# Altium footprint library Headers.PcbLib: 34 footprints (part 1 of 3)
Each footprint in its own frame and in the unit in brackets; x right, y up, seen from the top. Pads: shape width x height; smd on the part's side, far side on the other; paste and mask are expansions set on the pad; w line width, h text height; cw(c..) or ccw(c..) is an arc to the next point about the centre after c.
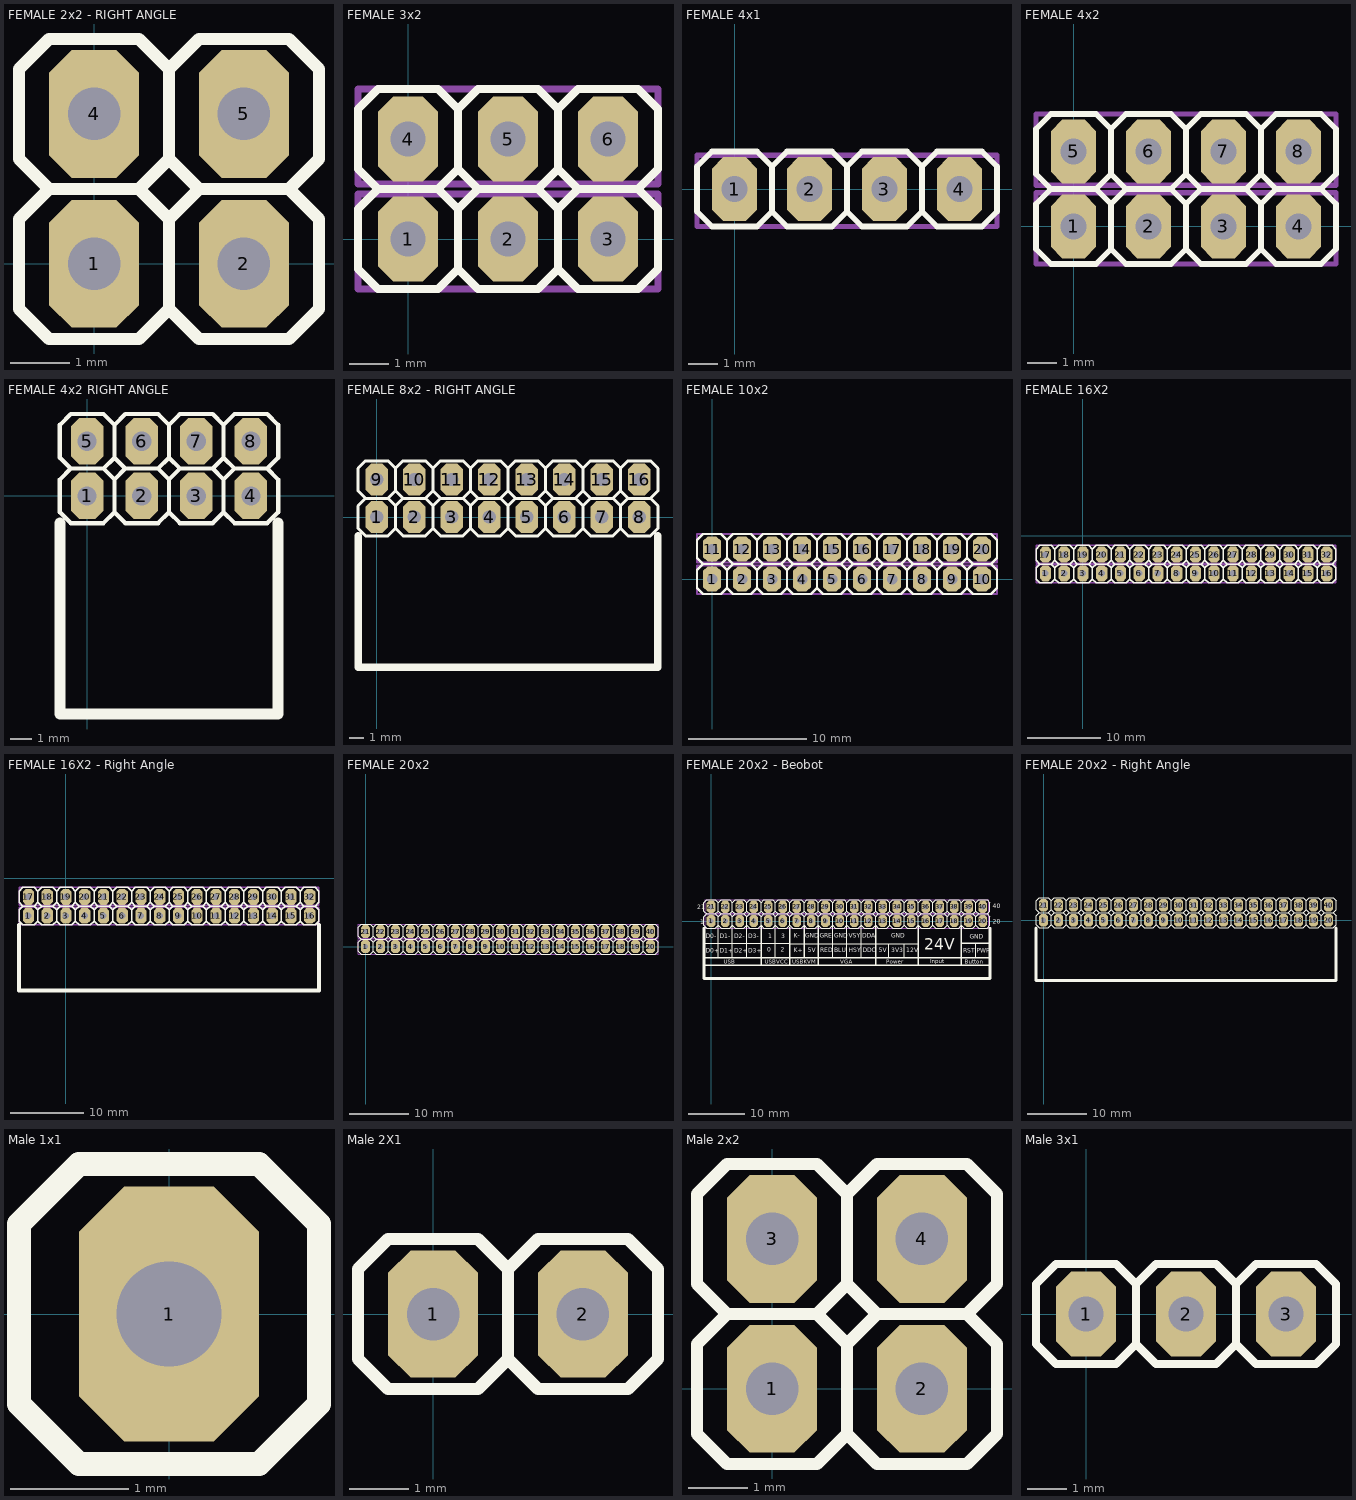
[diagram p0: the footprints below, top view; thin cyan lines are the x and y axes]

## FEMALE 2x2 - RIGHT ANGLE [mil]
pads (4):
  oct 60x85 hole 35: 1(0,0) 2(100,0) 4(0,100) 5(100,100)
Top Overlay:
  lines w8: -30,50 30,50 ; -30,50 -50,30 -50,-30 -30,-50 30,-50 50,-30 ; -30,50 30,50 ; -30,50 30,50 ; -30,50 -50,70 -50,130 -30,150 ; -30,150 30,150 ; -30,150 30,150 ; 30,50 50,30 ; 30,50 50,70 ; 30,150 50,130 ; 50,-30 50,30 ; 50,-30 50,30 ; 50,-30 50,30 ; 50,-30 70,-50 130,-50 150,-30 ; 50,30 70,50 ; 50,70 50,130 ; 50,70 50,130 ; 50,70 50,130 ; 50,70 70,50 ; 50,130 70,150 ; 70,50 130,50 ; 70,50 130,50 ; 70,50 130,50 ; 70,150 130,150 ; 70,150 130,150 ; 130,50 150,30 ; 130,50 150,70 ; 130,150 150,130 ; 150,-30 150,30 ; 150,-30 150,30 ; 150,-30 150,30 ; 150,70 150,130 ; 150,70 150,130 ; 150,70 150,130
3D body: height 124.41, standoff -124.41, extent 87.52,95 112.48,104.96
3D body: height 124.41, standoff -124.41, extent -12.48,-5 12.48,4.96
3D body: height 124.41, standoff -124.41, extent 87.52,-5 112.48,4.96
3D body: height 124.41, standoff -124.41, extent -12.48,-5 12.48,4.96
3D body: height 124.41, standoff -124.41, extent -12.48,-5 12.48,4.96
3D body: height 200, standoff 0, extent -50,-50 150,150

## FEMALE 3x2 [mil]
pads (6):
  oct 60x85 hole 35: 1(0,0) 2(100,0) 3(200,0) 4(0,100) 5(100,100) 6(200,100)
Top Overlay:
  lines w8: -30,50 -50,70 -50,130 -30,150 ; -30,50 30,50 ; -30,50 30,50 ; -30,50 -50,30 -50,-30 -30,-50 30,-50 50,-30 ; -30,50 30,50 ; -30,150 30,150 ; -30,150 30,150 ; 30,50 50,70 ; 30,50 50,30 ; 30,150 50,130 ; 50,-30 70,-50 130,-50 150,-30 ; 50,-30 50,30 ; 50,-30 50,30 ; 50,-30 50,30 ; 50,30 70,50 ; 50,70 70,50 ; 50,70 50,130 ; 50,70 50,130 ; 50,70 50,130 ; 50,130 70,150 ; 70,50 130,50 ; 70,50 130,50 ; 70,50 130,50 ; 70,150 130,150 ; 70,150 130,150 ; 130,50 150,70 ; 130,50 150,30 ; 130,150 150,130 ; 150,-30 170,-50 230,-50 250,-30 ; 150,-30 150,30 ; 150,-30 150,30 ; 150,-30 150,30 ; 150,30 170,50 ; 150,70 170,50 ; 150,70 150,130 ; 150,70 150,130 ; 150,70 150,130 ; 150,130 170,150 ; 170,50 230,50 ; 170,50 230,50 ; 170,50 230,50 ; 170,150 230,150 ; 170,150 230,150 ; 230,50 250,70 ; 230,50 250,30 ; 230,150 250,130 ; 250,-30 250,30 ; 250,-30 250,30 ; 250,-30 250,30 ; 250,70 250,130 ; 250,70 250,130 ; 250,70 250,130
Mechanical 1:
  lines w7: -50,-50 -50,45 250,45 250,-50 -50,-50 ; -50,55 250,55 250,150 -50,150 -50,55
3D body: height 332.68, standoff 0, extent -49.98,-49.98 250,44.98
3D body: height 332.68, standoff 0, extent -49.98,55.02 250,149.98
3D body: height 124.41, standoff -124.41, extent -12.48,-5 12.48,4.96
3D body: height 124.41, standoff -124.41, extent -12.48,-5 12.48,4.96
3D body: height 124.41, standoff -124.41, extent 87.52,-5 112.48,4.96
3D body: height 124.41, standoff -124.41, extent 187.52,-5 212.48,4.96
3D body: height 124.41, standoff -124.41, extent -12.48,95 12.48,104.96
3D body: height 124.41, standoff -124.41, extent 87.52,95 112.48,104.96
3D body: height 124.41, standoff -124.41, extent 187.52,95 212.48,104.96

## FEMALE 4x1 [mil]
pads (4):
  oct 60x85 hole 35: 1(0,0) 2(100,0) 3(200,0) 4(300,0)
Top Overlay:
  lines w8: -30,50 30,50 ; -30,50 30,50 ; -30,50 -50,30 -50,-30 -30,-50 30,-50 50,-30 ; -30,50 30,50 ; 30,50 50,30 ; 50,-30 70,-50 130,-50 150,-30 ; 50,-30 50,30 ; 50,-30 50,30 ; 50,-30 50,30 ; 50,30 70,50 ; 70,50 130,50 ; 70,50 130,50 ; 70,50 130,50 ; 130,50 150,30 ; 150,-30 170,-50 230,-50 250,-30 ; 150,-30 150,30 ; 150,-30 150,30 ; 150,-30 150,30 ; 150,30 170,50 ; 170,50 230,50 ; 170,50 230,50 ; 170,50 230,50 ; 230,50 250,30 ; 250,-30 270,-50 330,-50 350,-30 ; 250,-30 250,30 ; 250,-30 250,30 ; 250,-30 250,30 ; 250,30 270,50 ; 270,50 330,50 ; 270,50 330,50 ; 270,50 330,50 ; 330,50 350,30 ; 350,-30 350,30 ; 350,-30 350,30 ; 350,-30 350,30
Mechanical 1:
  lines w7: -50,-50 -50,45 350,45 350,-50 -50,-50
3D body: height 332.68, standoff 0, extent -49.98,-49.98 350,44.98
3D body: height 124.41, standoff -124.41, extent -12.48,-5 12.48,4.96
3D body: height 124.41, standoff -124.41, extent -12.48,-5 12.48,4.96
3D body: height 124.41, standoff -124.41, extent 87.52,-5 112.48,4.96
3D body: height 124.41, standoff -124.41, extent 187.52,-5 212.48,4.96
3D body: height 124.41, standoff -124.41, extent 287.52,-5 312.48,4.96

## FEMALE 4x2 [mil]
pads (8):
  oct 60x85 hole 35: 1(0,0) 2(100,0) 3(200,0) 4(300,0) 5(0,100) 6(100,100) 7(200,100) 8(300,100)
Top Overlay:
  lines w8: -30,50 30,50 ; -30,50 -50,30 -50,-30 -30,-50 30,-50 50,-30 ; -30,50 30,50 ; -30,50 30,50 ; -30,50 -50,70 -50,130 -30,150 ; -30,150 30,150 ; -30,150 30,150 ; 30,50 50,30 ; 30,50 50,70 ; 30,150 50,130 ; 50,-30 50,30 ; 50,-30 50,30 ; 50,-30 50,30 ; 50,-30 70,-50 130,-50 150,-30 ; 50,30 70,50 ; 50,70 50,130 ; 50,70 50,130 ; 50,70 50,130 ; 50,70 70,50 ; 50,130 70,150 ; 70,50 130,50 ; 70,50 130,50 ; 70,50 130,50 ; 70,150 130,150 ; 70,150 130,150 ; 130,50 150,30 ; 130,50 150,70 ; 130,150 150,130 ; 150,-30 150,30 ; 150,-30 150,30 ; 150,-30 150,30 ; 150,-30 170,-50 230,-50 250,-30 ; 150,30 170,50 ; 150,70 150,130 ; 150,70 150,130 ; 150,70 150,130 ; 150,70 170,50 ; 150,130 170,150 ; 170,50 230,50 ; 170,50 230,50 ; 170,50 230,50 ; 170,150 230,150 ; 170,150 230,150 ; 230,50 250,30 ; 230,50 250,70 ; 230,150 250,130 ; 250,-30 250,30 ; 250,-30 250,30 ; 250,-30 250,30 ; 250,-30 270,-50 330,-50 350,-30 ; 250,30 270,50 ; 250,70 250,130 ; 250,70 250,130 ; 250,70 250,130 ; 250,70 270,50 ; 250,130 270,150 ; 270,50 330,50 ; 270,50 330,50 ; 270,50 330,50 ; 270,150 330,150 ; 270,150 330,150 ; 330,50 350,30 ; 330,50 350,70 ; 330,150 350,130 ; 350,-30 350,30 ; 350,-30 350,30 ; 350,-30 350,30 ; 350,70 350,130 ; 350,70 350,130 ; 350,70 350,130
Mechanical 1:
  lines w7: -50,-50 350,-50 350,45 -50,45 -50,-50 ; -50,55 -50,150 350,150 350,55 -50,55
3D body: height 124.41, standoff -124.41, extent 287.52,95 312.48,104.96
3D body: height 124.41, standoff -124.41, extent 187.52,95 212.48,104.96
3D body: height 124.41, standoff -124.41, extent 87.52,95 112.48,104.96
3D body: height 124.41, standoff -124.41, extent -12.48,95 12.48,104.96
3D body: height 124.41, standoff -124.41, extent 287.52,-5 312.48,4.96
3D body: height 124.41, standoff -124.41, extent 187.52,-5 212.48,4.96
3D body: height 124.41, standoff -124.41, extent 87.52,-5 112.48,4.96
3D body: height 124.41, standoff -124.41, extent -12.48,-5 12.48,4.96
3D body: height 124.41, standoff -124.41, extent -12.48,-5 12.48,4.96
3D body: height 332.68, standoff 0, extent -49.98,55.02 350,149.98
3D body: height 332.68, standoff 0, extent -49.98,-49.98 350,44.98

## FEMALE 4x2 RIGHT ANGLE [mil]
pads (8):
  oct 60x85 hole 35: 1(0,0) 2(100,0) 3(200,0) 4(300,0) 5(0,100) 6(100,100) 7(200,100) 8(300,100)
Top Overlay:
  lines w8: -30,50 30,50 ; -30,50 -50,30 -50,-30 -30,-50 30,-50 50,-30 ; -30,50 30,50 ; -30,50 30,50 ; -30,50 -50,70 -50,130 -30,150 ; -30,150 30,150 ; -30,150 30,150 ; 30,50 50,30 ; 30,50 50,70 ; 30,150 50,130 ; 50,-30 50,30 ; 50,-30 50,30 ; 50,-30 50,30 ; 50,-30 70,-50 130,-50 150,-30 ; 50,30 70,50 ; 50,70 50,130 ; 50,70 50,130 ; 50,70 50,130 ; 50,70 70,50 ; 50,130 70,150 ; 70,50 130,50 ; 70,50 130,50 ; 70,50 130,50 ; 70,150 130,150 ; 70,150 130,150 ; 130,50 150,30 ; 130,50 150,70 ; 130,150 150,130 ; 150,-30 150,30 ; 150,-30 150,30 ; 150,-30 150,30 ; 150,-30 170,-50 230,-50 250,-30 ; 150,30 170,50 ; 150,70 150,130 ; 150,70 150,130 ; 150,70 150,130 ; 150,70 170,50 ; 150,130 170,150 ; 170,50 230,50 ; 170,50 230,50 ; 170,50 230,50 ; 170,150 230,150 ; 170,150 230,150 ; 230,50 250,30 ; 230,50 250,70 ; 230,150 250,130 ; 250,-30 250,30 ; 250,-30 250,30 ; 250,-30 250,30 ; 250,-30 270,-50 330,-50 350,-30 ; 250,30 270,50 ; 250,70 250,130 ; 250,70 250,130 ; 250,70 250,130 ; 250,70 270,50 ; 250,130 270,150 ; 270,50 330,50 ; 270,50 330,50 ; 270,50 330,50 ; 270,150 330,150 ; 270,150 330,150 ; 330,50 350,30 ; 330,50 350,70 ; 330,150 350,130 ; 350,-30 350,30 ; 350,-30 350,30 ; 350,-30 350,30 ; 350,70 350,130 ; 350,70 350,130 ; 350,70 350,130
  lines w20: -50,-50 -50,-400 350,-400 350,-50
3D body: height 147.24, standoff 130, extent 288.19,-70.87 311.81,107.87
3D body: height 139.37, standoff -84.65, extent 288.19,92.13 311.81,107.87
3D body: height 147.24, standoff 130, extent 188.19,-70.87 211.81,107.87
3D body: height 139.37, standoff -84.65, extent 188.19,92.13 211.81,107.87
3D body: height 147.24, standoff 130, extent 88.19,-70.87 111.81,107.87
3D body: height 139.37, standoff -84.65, extent 88.19,92.13 111.81,107.87
3D body: height 139.37, standoff -84.65, extent -11.81,92.13 11.81,107.87
3D body: height 147.24, standoff 130, extent -11.81,-70.87 11.81,107.87
3D body: height 47.24, standoff 30, extent 288.19,-70.87 311.81,7.87
3D body: height 39.37, standoff -84.65, extent 288.19,-7.87 311.81,7.87
3D body: height 47.24, standoff 30, extent 188.19,-70.87 211.81,7.87
3D body: height 39.37, standoff -84.65, extent 188.19,-7.87 211.81,7.87
3D body: height 47.24, standoff 30, extent 88.19,-70.87 111.81,7.87
3D body: height 39.37, standoff -84.65, extent 88.19,-7.87 111.81,7.87
3D body: height 39.37, standoff -84.65, extent -11.81,-7.87 11.81,7.87
3D body: height 47.24, standoff 30, extent -11.81,-70.87 11.81,7.87
3D body: height 200, standoff 0, extent -50,-400 350,-50

## FEMALE 8x2 - RIGHT ANGLE [mil]
pads (16):
  oct 60x85 hole 35: 1(0,0) 2(100,0) 3(200,0) 4(300,0) 5(400,0) 6(500,0) 7(600,0) 8(700,0) 9(0,100) 10(100,100) 11(200,100) 12(300,100) 13(400,100) 14(500,100) 15(600,100) 16(700,100)
Top Overlay:
  drawing of 165 lines, arcs and shapes, not listed
3D body: height 200, standoff 0, extent -50,-400 750,-50
3D body: height 47.24, standoff 30, extent -11.81,-70.87 11.81,7.87
3D body: height 39.37, standoff -84.65, extent -11.81,-7.87 11.81,7.87
3D body: height 39.37, standoff -84.65, extent 88.19,-7.87 111.81,7.87
3D body: height 47.24, standoff 30, extent 88.19,-70.87 111.81,7.87
3D body: height 39.37, standoff -84.65, extent 188.19,-7.87 211.81,7.87
3D body: height 47.24, standoff 30, extent 188.19,-70.87 211.81,7.87
3D body: height 39.37, standoff -84.65, extent 288.19,-7.87 311.81,7.87
3D body: height 47.24, standoff 30, extent 288.19,-70.87 311.81,7.87
3D body: height 39.37, standoff -84.65, extent 388.19,-7.87 411.81,7.87
3D body: height 47.24, standoff 30, extent 388.19,-70.87 411.81,7.87
3D body: height 39.37, standoff -84.65, extent 488.19,-7.87 511.81,7.87
3D body: height 47.24, standoff 30, extent 488.19,-70.87 511.81,7.87
3D body: height 39.37, standoff -84.65, extent 588.19,-7.87 611.81,7.87
3D body: height 47.24, standoff 30, extent 588.19,-70.87 611.81,7.87
3D body: height 39.37, standoff -84.65, extent 688.19,-7.87 711.81,7.87
3D body: height 47.24, standoff 30, extent 688.19,-70.87 711.81,7.87
3D body: height 147.24, standoff 130, extent -11.81,-70.87 11.81,107.87
3D body: height 139.37, standoff -84.65, extent -11.81,92.13 11.81,107.87
3D body: height 139.37, standoff -84.65, extent 88.19,92.13 111.81,107.87
3D body: height 147.24, standoff 130, extent 88.19,-70.87 111.81,107.87
3D body: height 139.37, standoff -84.65, extent 188.19,92.13 211.81,107.87
3D body: height 147.24, standoff 130, extent 188.19,-70.87 211.81,107.87
3D body: height 139.37, standoff -84.65, extent 288.19,92.13 311.81,107.87
3D body: height 147.24, standoff 130, extent 288.19,-70.87 311.81,107.87
3D body: height 139.37, standoff -84.65, extent 388.19,92.13 411.81,107.87
3D body: height 147.24, standoff 130, extent 388.19,-70.87 411.81,107.87
3D body: height 139.37, standoff -84.65, extent 488.19,92.13 511.81,107.87
3D body: height 147.24, standoff 130, extent 488.19,-70.87 511.81,107.87
3D body: height 139.37, standoff -84.65, extent 588.19,92.13 611.81,107.87
3D body: height 147.24, standoff 130, extent 588.19,-70.87 611.81,107.87
3D body: height 139.37, standoff -84.65, extent 688.19,92.13 711.81,107.87
3D body: height 147.24, standoff 130, extent 688.19,-70.87 711.81,107.87

## FEMALE 10x2 [mil]
pads (20):
  oct 60x85 hole 35: 1(0,0) 2(100,0) 3(200,0) 4(300,0) 5(400,0) 6(500,0) 7(600,0) 8(700,0) 9(800,0) 10(900,0) 11(0,100) 12(100,100) 13(200,100) 14(300,100) 15(400,100) 16(500,100) 17(600,100) 18(700,100) 19(800,100) 20(900,100)
Top Overlay:
  drawing of 202 lines, arcs and shapes, not listed
Mechanical 1:
  lines w7: -50,-50 950,-50 950,45 -50,45 -50,-50 ; -50,55 -50,150 950,150 950,55 -50,55
3D body: height 124.41, standoff -124.41, extent 887.52,95 912.48,104.96
3D body: height 124.41, standoff -124.41, extent 787.52,95 812.48,104.96
3D body: height 124.41, standoff -124.41, extent 687.52,95 712.48,104.96
3D body: height 124.41, standoff -124.41, extent 587.52,95 612.48,104.96
3D body: height 124.41, standoff -124.41, extent 487.52,95 512.48,104.96
3D body: height 124.41, standoff -124.41, extent 387.52,95 412.48,104.96
3D body: height 124.41, standoff -124.41, extent 287.52,95 312.48,104.96
3D body: height 124.41, standoff -124.41, extent 187.52,95 212.48,104.96
3D body: height 124.41, standoff -124.41, extent 87.52,95 112.48,104.96
3D body: height 124.41, standoff -124.41, extent -12.48,95 12.48,104.96
3D body: height 124.41, standoff -124.41, extent 887.52,-5 912.48,4.96
3D body: height 124.41, standoff -124.41, extent 787.52,-5 812.48,4.96
3D body: height 124.41, standoff -124.41, extent 687.52,-5 712.48,4.96
3D body: height 124.41, standoff -124.41, extent 587.52,-5 612.48,4.96
3D body: height 124.41, standoff -124.41, extent 487.52,-5 512.48,4.96
3D body: height 124.41, standoff -124.41, extent 387.52,-5 412.48,4.96
3D body: height 124.41, standoff -124.41, extent 287.52,-5 312.48,4.96
3D body: height 124.41, standoff -124.41, extent 187.52,-5 212.48,4.96
3D body: height 124.41, standoff -124.41, extent 87.52,-5 112.48,4.96
3D body: height 124.41, standoff -124.41, extent -12.48,-5 12.48,4.96
3D body: height 124.41, standoff -124.41, extent -12.48,-5 12.48,4.96
3D body: height 332.68, standoff 0, extent -49.98,55.02 950,149.98
3D body: height 332.68, standoff 0, extent -49.98,-49.98 950,44.98

## FEMALE 16X2 [mil]
pads (32):
  oct 60x85 hole 35: 1(-200,-200) 2(-100,-200) 3(0,-200) 4(100,-200) 5(200,-200) 6(300,-200) 7(400,-200) 8(500,-200) 9(600,-200) 10(700,-200) 11(800,-200) 12(900,-200) 13(1000,-200) 14(1100,-200) 15(1200,-200) 16(1300,-200) 17(-200,-100) 18(-100,-100) 19(0,-100) 20(100,-100) 21(200,-100) 22(300,-100) 23(400,-100) 24(500,-100) 25(600,-100) 26(700,-100) 27(800,-100) 28(900,-100) 29(1000,-100) 30(1100,-100) 31(1200,-100) 32(1300,-100)
Top Overlay:
  drawing of 322 lines, arcs and shapes, not listed
Mechanical 1:
  lines w7: 1350,-250 -250,-250 -250,-155 1350,-155 ; 1350,-250 1350,-226.25 1350,-178.75 1350,-155 ; 1350,-250 1350,-155 ; 1350,-145 -250,-145 -250,-50 1350,-50 ; 1350,-145 1350,-50 ; 1350,-145 1350,-50
3D body: height 332.68, standoff 0, extent -249.98,-250 1350,-150
3D body: height 332.68, standoff 0, extent -249.98,-150 1350,-50
3D body: height 124.41, standoff -124.41, extent -212.48,-205 -187.52,-195.04
3D body: height 124.41, standoff -124.41, extent -212.48,-205 -187.52,-195.04
3D body: height 124.41, standoff -124.41, extent -112.48,-205 -87.52,-195.04
3D body: height 124.41, standoff -124.41, extent -12.48,-205 12.48,-195.04
3D body: height 124.41, standoff -124.41, extent 87.52,-205 112.48,-195.04
3D body: height 124.41, standoff -124.41, extent 187.52,-205 212.48,-195.04
3D body: height 124.41, standoff -124.41, extent 287.52,-205 312.48,-195.04
3D body: height 124.41, standoff -124.41, extent 387.52,-205 412.48,-195.04
3D body: height 124.41, standoff -124.41, extent 487.52,-205 512.48,-195.04
3D body: height 124.41, standoff -124.41, extent 587.52,-205 612.48,-195.04
3D body: height 124.41, standoff -124.41, extent 687.52,-205 712.48,-195.04
3D body: height 124.41, standoff -124.41, extent -212.48,-105 -187.52,-95.04
3D body: height 124.41, standoff -124.41, extent -112.48,-105 -87.52,-95.04
3D body: height 124.41, standoff -124.41, extent -12.48,-105 12.48,-95.04
3D body: height 124.41, standoff -124.41, extent 87.52,-105 112.48,-95.04
3D body: height 124.41, standoff -124.41, extent 187.52,-105 212.48,-95.04
3D body: height 124.41, standoff -124.41, extent 287.52,-105 312.48,-95.04
3D body: height 124.41, standoff -124.41, extent 387.52,-105 412.48,-95.04
3D body: height 124.41, standoff -124.41, extent 487.52,-105 512.48,-95.04
3D body: height 124.41, standoff -124.41, extent 587.52,-105 612.48,-95.04
3D body: height 124.41, standoff -124.41, extent 687.52,-105 712.48,-95.04
3D body: height 124.41, standoff -124.41, extent 1287.52,-105 1312.48,-95.04
3D body: height 124.41, standoff -124.41, extent 1187.52,-105 1212.48,-95.04
3D body: height 124.41, standoff -124.41, extent 1087.52,-105 1112.48,-95.04
3D body: height 124.41, standoff -124.41, extent 987.52,-105 1012.48,-95.04
3D body: height 124.41, standoff -124.41, extent 887.52,-105 912.48,-95.04
3D body: height 124.41, standoff -124.41, extent 787.52,-105 812.48,-95.04
3D body: height 124.41, standoff -124.41, extent 1287.52,-205 1312.48,-195.04
3D body: height 124.41, standoff -124.41, extent 1187.52,-205 1212.48,-195.04
3D body: height 124.41, standoff -124.41, extent 1087.52,-205 1112.48,-195.04
3D body: height 124.41, standoff -124.41, extent 987.52,-205 1012.48,-195.04
3D body: height 124.41, standoff -124.41, extent 887.52,-205 912.48,-195.04
3D body: height 124.41, standoff -124.41, extent 787.52,-205 812.48,-195.04
3D body: height 124.41, standoff -124.41, extent 787.52,-205 812.48,-195.04

## FEMALE 16X2 - Right Angle [mil]
pads (32):
  oct 60x85 hole 35: 1(-200,-200) 2(-100,-200) 3(0,-200) 4(100,-200) 5(200,-200) 6(300,-200) 7(400,-200) 8(500,-200) 9(600,-200) 10(700,-200) 11(800,-200) 12(900,-200) 13(1000,-200) 14(1100,-200) 15(1200,-200) 16(1300,-200) 17(-200,-100) 18(-100,-100) 19(0,-100) 20(100,-100) 21(200,-100) 22(300,-100) 23(400,-100) 24(500,-100) 25(600,-100) 26(700,-100) 27(800,-100) 28(900,-100) 29(1000,-100) 30(1100,-100) 31(1200,-100) 32(1300,-100)
Top Overlay:
  drawing of 325 lines, arcs and shapes, not listed
Mechanical 1:
  lines w7: 1350,-250 1350,-155 ; 1350,-250 1350,-226.25 1350,-178.75 1350,-155 ; 1350,-250 -250,-250 -250,-155 1350,-155 ; 1350,-145 1350,-50 ; 1350,-145 1350,-50 ; 1350,-145 -250,-145 -250,-50 1350,-50
3D body: height 124.41, standoff -124.41, extent 787.52,-205 812.48,-195.04
3D body: height 124.41, standoff -124.41, extent 787.52,-205 812.48,-195.04
3D body: height 124.41, standoff -124.41, extent 887.52,-205 912.48,-195.04
3D body: height 124.41, standoff -124.41, extent 987.52,-205 1012.48,-195.04
3D body: height 124.41, standoff -124.41, extent 1087.52,-205 1112.48,-195.04
3D body: height 124.41, standoff -124.41, extent 1187.52,-205 1212.48,-195.04
3D body: height 124.41, standoff -124.41, extent 1287.52,-205 1312.48,-195.04
3D body: height 124.41, standoff -124.41, extent 787.52,-105 812.48,-95.04
3D body: height 124.41, standoff -124.41, extent 887.52,-105 912.48,-95.04
3D body: height 124.41, standoff -124.41, extent 987.52,-105 1012.48,-95.04
3D body: height 124.41, standoff -124.41, extent 1087.52,-105 1112.48,-95.04
3D body: height 124.41, standoff -124.41, extent 1187.52,-105 1212.48,-95.04
3D body: height 124.41, standoff -124.41, extent 1287.52,-105 1312.48,-95.04
3D body: height 124.41, standoff -124.41, extent 687.52,-105 712.48,-95.04
3D body: height 124.41, standoff -124.41, extent 587.52,-105 612.48,-95.04
3D body: height 124.41, standoff -124.41, extent 487.52,-105 512.48,-95.04
3D body: height 124.41, standoff -124.41, extent 387.52,-105 412.48,-95.04
3D body: height 124.41, standoff -124.41, extent 287.52,-105 312.48,-95.04
3D body: height 124.41, standoff -124.41, extent 187.52,-105 212.48,-95.04
3D body: height 124.41, standoff -124.41, extent 87.52,-105 112.48,-95.04
3D body: height 124.41, standoff -124.41, extent -12.48,-105 12.48,-95.04
3D body: height 124.41, standoff -124.41, extent -112.48,-105 -87.52,-95.04
3D body: height 124.41, standoff -124.41, extent -212.48,-105 -187.52,-95.04
3D body: height 124.41, standoff -124.41, extent 687.52,-205 712.48,-195.04
3D body: height 124.41, standoff -124.41, extent 587.52,-205 612.48,-195.04
3D body: height 124.41, standoff -124.41, extent 487.52,-205 512.48,-195.04
3D body: height 124.41, standoff -124.41, extent 387.52,-205 412.48,-195.04
3D body: height 124.41, standoff -124.41, extent 287.52,-205 312.48,-195.04
3D body: height 124.41, standoff -124.41, extent 187.52,-205 212.48,-195.04
3D body: height 124.41, standoff -124.41, extent 87.52,-205 112.48,-195.04
3D body: height 124.41, standoff -124.41, extent -12.48,-205 12.48,-195.04
3D body: height 124.41, standoff -124.41, extent -112.48,-205 -87.52,-195.04
3D body: height 124.41, standoff -124.41, extent -212.48,-205 -187.52,-195.04
3D body: height 124.41, standoff -124.41, extent -212.48,-205 -187.52,-195.04
3D body: height 332.68, standoff 0, extent -249.98,-150 1350,-50
3D body: height 332.68, standoff 0, extent -249.98,-250 1350,-150

## FEMALE 20x2 [mil]
pads (40):
  oct 60x85 hole 35: 1(0,0) 2(100,0) 3(200,0) 4(300,0) 5(400,0) 6(500,0) 7(600,0) 8(700,0) 9(800,0) 10(900,0) 11(1000,0) 12(1100,0) 13(1200,0) 14(1300,0) 15(1400,0) 16(1500,0) 17(1600,0) 18(1700,0) 19(1800,0) 20(1900,0) 21(0,100) 22(100,100) 23(200,100) 24(300,100) 25(400,100) 26(500,100) 27(600,100) 28(700,100) 29(800,100) 30(900,100) 31(1000,100) 32(1100,100) 33(1200,100) 34(1300,100) 35(1400,100) 36(1500,100) 37(1600,100) 38(1700,100) 39(1800,100) 40(1900,100)
Top Overlay:
  drawing of 400 lines, arcs and shapes, not listed
Mechanical 1:
  lines w7: -50,-50 -50,45 1950,45 1950,-50 -50,-50 ; -50,55 1950,55 1950,150 -50,150 -50,55
3D body: height 332.68, standoff 0, extent -49.98,-49.98 1949.98,44.98
3D body: height 332.68, standoff 0, extent -49.98,55.02 1949.98,149.98
3D body: height 124.41, standoff -124.41, extent -12.48,-5 12.48,4.96
3D body: height 124.41, standoff -124.41, extent -12.48,-5 12.48,4.96
3D body: height 124.41, standoff -124.41, extent 87.52,-5 112.48,4.96
3D body: height 124.41, standoff -124.41, extent 187.52,-5 212.48,4.96
3D body: height 124.41, standoff -124.41, extent 287.52,-5 312.48,4.96
3D body: height 124.41, standoff -124.41, extent 387.52,-5 412.48,4.96
3D body: height 124.41, standoff -124.41, extent 487.52,-5 512.48,4.96
3D body: height 124.41, standoff -124.41, extent 587.52,-5 612.48,4.96
3D body: height 124.41, standoff -124.41, extent 687.52,-5 712.48,4.96
3D body: height 124.41, standoff -124.41, extent 787.52,-5 812.48,4.96
3D body: height 124.41, standoff -124.41, extent 887.52,-5 912.48,4.96
3D body: height 124.41, standoff -124.41, extent 987.52,-5 1012.48,4.96
3D body: height 124.41, standoff -124.41, extent 1087.52,-5 1112.48,4.96
3D body: height 124.41, standoff -124.41, extent 1187.52,-5 1212.48,4.96
3D body: height 124.41, standoff -124.41, extent 1287.52,-5 1312.48,4.96
3D body: height 124.41, standoff -124.41, extent 1387.52,-5 1412.48,4.96
3D body: height 124.41, standoff -124.41, extent 1487.52,-5 1512.48,4.96
3D body: height 124.41, standoff -124.41, extent 1587.52,-5 1612.48,4.96
3D body: height 124.41, standoff -124.41, extent 1687.52,-5 1712.48,4.96
3D body: height 124.41, standoff -124.41, extent 1787.52,-5 1812.48,4.96
3D body: height 124.41, standoff -124.41, extent 1887.52,-5 1912.48,4.96
3D body: height 124.41, standoff -124.41, extent -12.48,95 12.48,104.96
3D body: height 124.41, standoff -124.41, extent 87.52,95 112.48,104.96
3D body: height 124.41, standoff -124.41, extent 187.52,95 212.48,104.96
3D body: height 124.41, standoff -124.41, extent 287.52,95 312.48,104.96
3D body: height 124.41, standoff -124.41, extent 387.52,95 412.48,104.96
3D body: height 124.41, standoff -124.41, extent 487.52,95 512.48,104.96
3D body: height 124.41, standoff -124.41, extent 587.52,95 612.48,104.96
3D body: height 124.41, standoff -124.41, extent 687.52,95 712.48,104.96
3D body: height 124.41, standoff -124.41, extent 787.52,95 812.48,104.96
3D body: height 124.41, standoff -124.41, extent 887.52,95 912.48,104.96
3D body: height 124.41, standoff -124.41, extent 987.52,95 1012.48,104.96
3D body: height 124.41, standoff -124.41, extent 1087.52,95 1112.48,104.96
3D body: height 124.41, standoff -124.41, extent 1187.52,95 1212.48,104.96
3D body: height 124.41, standoff -124.41, extent 1287.52,95 1312.48,104.96
3D body: height 124.41, standoff -124.41, extent 1387.52,95 1412.48,104.96
3D body: height 124.41, standoff -124.41, extent 1487.52,95 1512.48,104.96
3D body: height 124.41, standoff -124.41, extent 1587.52,95 1612.48,104.96
3D body: height 124.41, standoff -124.41, extent 1687.52,95 1712.48,104.96
3D body: height 124.41, standoff -124.41, extent 1787.52,95 1812.48,104.96
3D body: height 124.41, standoff -124.41, extent 1887.52,95 1912.48,104.96

## FEMALE 20x2 - Beobot [mil]
pads (40):
  oct 60x85 hole 35: 1(0,0) 2(100,0) 3(200,0) 4(300,0) 5(400,0) 6(500,0) 7(600,0) 8(700,0) 9(800,0) 10(900,0) 11(1000,0) 12(1100,0) 13(1200,0) 14(1300,0) 15(1400,0) 16(1500,0) 17(1600,0) 18(1700,0) 19(1800,0) 20(1900,0) 21(0,100) 22(100,100) 23(200,100) 24(300,100) 25(400,100) 26(500,100) 27(600,100) 28(700,100) 29(800,100) 30(900,100) 31(1000,100) 32(1100,100) 33(1200,100) 34(1300,100) 35(1400,100) 36(1500,100) 37(1600,100) 38(1700,100) 39(1800,100) 40(1900,100)
Top Overlay:
  drawing of 434 lines, arcs and shapes, not listed
  text "Input" at 1533.96,-294.6 h28
  text "24V" at 1490,-200 h80
  text "3" at 489.96,-119.6 h30
  text "2" at 488.96,-214.6 h30
  text "1" at 399.96,-119.6 h30
  text "0" at 393.96,-214.6 h30
  text "D3-" at 258.96,-119.6 h30
  text "D2-" at 160.63,-119.6 h30
  text "D1-" at 62.29,-119.6 h30
  text "D0-" at -36.04,-119.6 h30
  text "D0+" at -36.04,-219.6 h30
  text "D3+" at 258.96,-219.6 h30
  text "D2+" at 160.63,-219.6 h30
  text "D1+" at 62.29,-219.6 h30
  text "40" at 1968.96,90.4 h30
  text "20" at 1968.96,-19.6 h30
  text "Button" at 1773.96,-299.6 h28
  text "Power" at 1223.96,-299.6 h28
  text "VGA" at 903.96,-299.6 h28
  text "USBKVM" at 568.96,-299.6 h28
  text "USBVCC" at 373.96,-299.6 h28
  text "USB" at 89.96,-299.6 h28
  text "RST" at 1761.92,-221.6 h30
  text "PWR" at 1857.96,-220.6 h30
  text "12V" at 1363.96,-218.6 h30
  text "3V3" at 1259.96,-218.6 h30
  text "DDC" at 1058.96,-218.6 h30
  text "DDA" at 1057.96,-117.6 h30
  text "HSY" at 960.96,-218.6 h30
  text "VSY" at 961.96,-117.6 h30
  text "BLU" at 860.96,-218.6 h30
  text "GRE" at 760.96,-117.6 h30
  text "RED" at 762.92,-218.6 h30
  text "GND" at 1807.96,-122.6 h30
  text "GND" at 1260.96,-117.6 h30
  text "GND" at 859.96,-117.6 h30
  text "GND" at 658.96,-117.6 h30
  text "5V" at 1173.96,-218.6 h30
  text "5V" at 676.96,-218.6 h30
  text "K-" at 577.96,-117.6 h30
  text "K+" at 577.96,-218.6 h30
  text "21" at -98.04,84.4 h30
  text "1" at -77.04,-23.6 h30
Bottom Overlay:
  drawing of 425 lines, arcs and shapes, not listed
  text "Input" at 1653.96,-294.6 h28
  text "24V" at 1705,-200 h80
  text "1" at -66.96,-24 h30
  text "21" at -58.96,85 h30
  text "K+" at 628.04,-219 h30
  text "K-" at 628.04,-118 h30
  text "5V" at 727.04,-219 h30
  text "5V" at 1224.04,-219 h30
  text "GND" at 739.04,-118 h30
  text "GND" at 940.04,-118 h30
  text "GND" at 1341.04,-118 h30
  text "GND" at 1888.04,-123 h30
  text "RED" at 843.08,-219 h30
  text "GRE" at 841.04,-118 h30
  text "BLU" at 941.04,-219 h30
  text "VSY" at 1042.04,-118 h30
  text "HSY" at 1041.04,-219 h30
  text "DDA" at 1138.04,-118 h30
  text "DDC" at 1139.04,-219 h30
  text "3V3" at 1340.04,-219 h30
  text "12V" at 1439.04,-219 h30
  text "PWR" at 1937.04,-221 h30
  text "RST" at 1841.08,-222 h30
  text "USB" at 164.04,-299 h28
  text "USBVCC" at 533.04,-299 h28
  text "USBKVM" at 728.04,-299 h28
  text "VGA" at 979.04,-299 h28
  text "Power" at 1350.04,-299 h28
  text "Button" at 1923.04,-299 h28
  text "20" at 2019.04,-19 h30
  text "40" at 2019.04,91 h30
  text "D1+" at 136.71,-220 h30
  text "D2+" at 240.37,-220 h30
  text "D3+" at 339.04,-220 h30
  text "D0+" at 44.04,-220 h30
  text "D0-" at 44.04,-120 h30
  text "D1-" at 135.71,-120 h30
  text "D2-" at 240.37,-120 h30
  text "D3-" at 339.04,-120 h30
  text "0" at 414.04,-215 h30
  text "1" at 410.04,-120 h30
  text "2" at 508.04,-214 h30
  text "3" at 510.04,-119 h30
Mechanical 1:
  lines w7: -40,-50 1940,-50 1940,45 -40,45 -40,-50 ; -40,55 -40,150 1940,150 1940,55 -40,55
3D body: height 124.41, standoff -124.41, extent 1887.52,95 1912.48,104.96
3D body: height 124.41, standoff -124.41, extent 1787.52,95 1812.48,104.96
3D body: height 124.41, standoff -124.41, extent 1687.52,95 1712.48,104.96
3D body: height 124.41, standoff -124.41, extent 1587.52,95 1612.48,104.96
3D body: height 124.41, standoff -124.41, extent 1487.52,95 1512.48,104.96
3D body: height 124.41, standoff -124.41, extent 1387.52,95 1412.48,104.96
3D body: height 124.41, standoff -124.41, extent 1287.52,95 1312.48,104.96
3D body: height 124.41, standoff -124.41, extent 1187.52,95 1212.48,104.96
3D body: height 124.41, standoff -124.41, extent 1087.52,95 1112.48,104.96
3D body: height 124.41, standoff -124.41, extent 987.52,95 1012.48,104.96
3D body: height 124.41, standoff -124.41, extent 887.52,95 912.48,104.96
3D body: height 124.41, standoff -124.41, extent 787.52,95 812.48,104.96
3D body: height 124.41, standoff -124.41, extent 687.52,95 712.48,104.96
3D body: height 124.41, standoff -124.41, extent 587.52,95 612.48,104.96
3D body: height 124.41, standoff -124.41, extent 487.52,95 512.48,104.96
3D body: height 124.41, standoff -124.41, extent 387.52,95 412.48,104.96
3D body: height 124.41, standoff -124.41, extent 287.52,95 312.48,104.96
3D body: height 124.41, standoff -124.41, extent 187.52,95 212.48,104.96
3D body: height 124.41, standoff -124.41, extent 87.52,95 112.48,104.96
3D body: height 124.41, standoff -124.41, extent -12.48,95 12.48,104.96
3D body: height 124.41, standoff -124.41, extent 1887.52,-5 1912.48,4.96
3D body: height 124.41, standoff -124.41, extent 1787.52,-5 1812.48,4.96
3D body: height 124.41, standoff -124.41, extent 1687.52,-5 1712.48,4.96
3D body: height 124.41, standoff -124.41, extent 1587.52,-5 1612.48,4.96
3D body: height 124.41, standoff -124.41, extent 1487.52,-5 1512.48,4.96
3D body: height 124.41, standoff -124.41, extent 1387.52,-5 1412.48,4.96
3D body: height 124.41, standoff -124.41, extent 1287.52,-5 1312.48,4.96
3D body: height 124.41, standoff -124.41, extent 1187.52,-5 1212.48,4.96
3D body: height 124.41, standoff -124.41, extent 1087.52,-5 1112.48,4.96
3D body: height 124.41, standoff -124.41, extent 987.52,-5 1012.48,4.96
3D body: height 124.41, standoff -124.41, extent 887.52,-5 912.48,4.96
3D body: height 124.41, standoff -124.41, extent 787.52,-5 812.48,4.96
3D body: height 124.41, standoff -124.41, extent 687.52,-5 712.48,4.96
3D body: height 124.41, standoff -124.41, extent 587.52,-5 612.48,4.96
3D body: height 124.41, standoff -124.41, extent 487.52,-5 512.48,4.96
3D body: height 124.41, standoff -124.41, extent 387.52,-5 412.48,4.96
3D body: height 124.41, standoff -124.41, extent 287.52,-5 312.48,4.96
3D body: height 124.41, standoff -124.41, extent 187.52,-5 212.48,4.96
3D body: height 124.41, standoff -124.41, extent 87.52,-5 112.48,4.96
3D body: height 124.41, standoff -124.41, extent -12.48,-5 12.48,4.96
3D body: height 124.41, standoff -124.41, extent -12.48,-5 12.48,4.96
3D body: height 332.68, standoff 0, extent -40,55 1940,150
3D body: height 124.41, standoff -124.41, extent 1887.52,95 1912.48,104.96
3D body: height 124.41, standoff -124.41, extent 1787.52,95 1812.48,104.96
3D body: height 124.41, standoff -124.41, extent 1687.52,95 1712.48,104.96
3D body: height 124.41, standoff -124.41, extent 1587.52,95 1612.48,104.96
3D body: height 124.41, standoff -124.41, extent 1487.52,95 1512.48,104.96
3D body: height 124.41, standoff -124.41, extent 1387.52,95 1412.48,104.96
3D body: height 124.41, standoff -124.41, extent 1287.52,95 1312.48,104.96
3D body: height 124.41, standoff -124.41, extent 1187.52,95 1212.48,104.96
3D body: height 124.41, standoff -124.41, extent 1087.52,95 1112.48,104.96
3D body: height 124.41, standoff -124.41, extent 987.52,95 1012.48,104.96
3D body: height 124.41, standoff -124.41, extent 887.52,95 912.48,104.96
3D body: height 124.41, standoff -124.41, extent 787.52,95 812.48,104.96
3D body: height 124.41, standoff -124.41, extent 687.52,95 712.48,104.96
3D body: height 124.41, standoff -124.41, extent 587.52,95 612.48,104.96
3D body: height 124.41, standoff -124.41, extent 487.52,95 512.48,104.96
3D body: height 124.41, standoff -124.41, extent 387.52,95 412.48,104.96
3D body: height 124.41, standoff -124.41, extent 287.52,95 312.48,104.96
3D body: height 124.41, standoff -124.41, extent 187.52,95 212.48,104.96
3D body: height 124.41, standoff -124.41, extent 87.52,95 112.48,104.96
3D body: height 124.41, standoff -124.41, extent -12.48,95 12.48,104.96
3D body: height 124.41, standoff -124.41, extent 1887.52,-5 1912.48,4.96
3D body: height 124.41, standoff -124.41, extent 1787.52,-5 1812.48,4.96
3D body: height 124.41, standoff -124.41, extent 1687.52,-5 1712.48,4.96
3D body: height 124.41, standoff -124.41, extent 1587.52,-5 1612.48,4.96
3D body: height 124.41, standoff -124.41, extent 1487.52,-5 1512.48,4.96
3D body: height 124.41, standoff -124.41, extent 1387.52,-5 1412.48,4.96
3D body: height 124.41, standoff -124.41, extent 1287.52,-5 1312.48,4.96
3D body: height 124.41, standoff -124.41, extent 1187.52,-5 1212.48,4.96
3D body: height 124.41, standoff -124.41, extent 1087.52,-5 1112.48,4.96
3D body: height 124.41, standoff -124.41, extent 987.52,-5 1012.48,4.96
3D body: height 124.41, standoff -124.41, extent 887.52,-5 912.48,4.96
3D body: height 124.41, standoff -124.41, extent 787.52,-5 812.48,4.96
3D body: height 124.41, standoff -124.41, extent 687.52,-5 712.48,4.96
3D body: height 124.41, standoff -124.41, extent 587.52,-5 612.48,4.96
3D body: height 124.41, standoff -124.41, extent 487.52,-5 512.48,4.96
3D body: height 124.41, standoff -124.41, extent 387.52,-5 412.48,4.96
3D body: height 124.41, standoff -124.41, extent 287.52,-5 312.48,4.96
3D body: height 124.41, standoff -124.41, extent 187.52,-5 212.48,4.96
3D body: height 124.41, standoff -124.41, extent 87.52,-5 112.48,4.96
3D body: height 124.41, standoff -124.41, extent -12.48,-5 12.48,4.96
3D body: height 124.41, standoff -124.41, extent -12.48,-5 12.48,4.96
3D body: height 332.68, standoff 0, extent -40,-50 1940,45

## FEMALE 20x2 - Right Angle [mil]
pads (40):
  oct 60x85 hole 35: 1(0,0) 2(100,0) 3(200,0) 4(300,0) 5(400,0) 6(500,0) 7(600,0) 8(700,0) 9(800,0) 10(900,0) 11(1000,0) 12(1100,0) 13(1200,0) 14(1300,0) 15(1400,0) 16(1500,0) 17(1600,0) 18(1700,0) 19(1800,0) 20(1900,0) 21(0,100) 22(100,100) 23(200,100) 24(300,100) 25(400,100) 26(500,100) 27(600,100) 28(700,100) 29(800,100) 30(900,100) 31(1000,100) 32(1100,100) 33(1200,100) 34(1300,100) 35(1400,100) 36(1500,100) 37(1600,100) 38(1700,100) 39(1800,100) 40(1900,100)
Top Overlay:
  drawing of 403 lines, arcs and shapes, not listed
3D body: height 147.24, standoff 130, extent 1888.19,-70.87 1911.81,107.87
3D body: height 139.37, standoff -84.65, extent 1888.19,92.13 1911.81,107.87
3D body: height 147.24, standoff 130, extent 1788.19,-70.87 1811.81,107.87
3D body: height 139.37, standoff -84.65, extent 1788.19,92.13 1811.81,107.87
3D body: height 147.24, standoff 130, extent 1688.19,-70.87 1711.81,107.87
3D body: height 139.37, standoff -84.65, extent 1688.19,92.13 1711.81,107.87
3D body: height 147.24, standoff 130, extent 1588.19,-70.87 1611.81,107.87
3D body: height 139.37, standoff -84.65, extent 1588.19,92.13 1611.81,107.87
3D body: height 147.24, standoff 130, extent 1488.19,-70.87 1511.81,107.87
3D body: height 139.37, standoff -84.65, extent 1488.19,92.13 1511.81,107.87
3D body: height 147.24, standoff 130, extent 1388.19,-70.87 1411.81,107.87
3D body: height 139.37, standoff -84.65, extent 1388.19,92.13 1411.81,107.87
3D body: height 147.24, standoff 130, extent 1288.19,-70.87 1311.81,107.87
3D body: height 139.37, standoff -84.65, extent 1288.19,92.13 1311.81,107.87
3D body: height 147.24, standoff 130, extent 1188.19,-70.87 1211.81,107.87
3D body: height 139.37, standoff -84.65, extent 1188.19,92.13 1211.81,107.87
3D body: height 147.24, standoff 130, extent 1088.19,-70.87 1111.81,107.87
3D body: height 139.37, standoff -84.65, extent 1088.19,92.13 1111.81,107.87
3D body: height 147.24, standoff 130, extent 988.19,-70.87 1011.81,107.87
3D body: height 139.37, standoff -84.65, extent 988.19,92.13 1011.81,107.87
3D body: height 147.24, standoff 130, extent 888.19,-70.87 911.81,107.87
3D body: height 139.37, standoff -84.65, extent 888.19,92.13 911.81,107.87
3D body: height 147.24, standoff 130, extent 788.19,-70.87 811.81,107.87
3D body: height 139.37, standoff -84.65, extent 788.19,92.13 811.81,107.87
3D body: height 147.24, standoff 130, extent 688.19,-70.87 711.81,107.87
3D body: height 139.37, standoff -84.65, extent 688.19,92.13 711.81,107.87
3D body: height 147.24, standoff 130, extent 588.19,-70.87 611.81,107.87
3D body: height 139.37, standoff -84.65, extent 588.19,92.13 611.81,107.87
3D body: height 147.24, standoff 130, extent 488.19,-70.87 511.81,107.87
3D body: height 139.37, standoff -84.65, extent 488.19,92.13 511.81,107.87
3D body: height 147.24, standoff 130, extent 388.19,-70.87 411.81,107.87
3D body: height 139.37, standoff -84.65, extent 388.19,92.13 411.81,107.87
3D body: height 147.24, standoff 130, extent 288.19,-70.87 311.81,107.87
3D body: height 139.37, standoff -84.65, extent 288.19,92.13 311.81,107.87
3D body: height 147.24, standoff 130, extent 188.19,-70.87 211.81,107.87
3D body: height 139.37, standoff -84.65, extent 188.19,92.13 211.81,107.87
3D body: height 147.24, standoff 130, extent 88.19,-70.87 111.81,107.87
3D body: height 139.37, standoff -84.65, extent 88.19,92.13 111.81,107.87
3D body: height 139.37, standoff -84.65, extent -11.81,92.13 11.81,107.87
3D body: height 147.24, standoff 130, extent -11.81,-70.87 11.81,107.87
3D body: height 47.24, standoff 30, extent 1888.19,-70.87 1911.81,7.87
3D body: height 39.37, standoff -84.65, extent 1888.19,-7.87 1911.81,7.87
3D body: height 47.24, standoff 30, extent 1788.19,-70.87 1811.81,7.87
3D body: height 39.37, standoff -84.65, extent 1788.19,-7.87 1811.81,7.87
3D body: height 47.24, standoff 30, extent 1688.19,-70.87 1711.81,7.87
3D body: height 39.37, standoff -84.65, extent 1688.19,-7.87 1711.81,7.87
3D body: height 47.24, standoff 30, extent 1588.19,-70.87 1611.81,7.87
3D body: height 39.37, standoff -84.65, extent 1588.19,-7.87 1611.81,7.87
3D body: height 47.24, standoff 30, extent 1488.19,-70.87 1511.81,7.87
3D body: height 39.37, standoff -84.65, extent 1488.19,-7.87 1511.81,7.87
3D body: height 47.24, standoff 30, extent 1388.19,-70.87 1411.81,7.87
3D body: height 39.37, standoff -84.65, extent 1388.19,-7.87 1411.81,7.87
3D body: height 47.24, standoff 30, extent 1288.19,-70.87 1311.81,7.87
3D body: height 39.37, standoff -84.65, extent 1288.19,-7.87 1311.81,7.87
3D body: height 47.24, standoff 30, extent 1188.19,-70.87 1211.81,7.87
3D body: height 39.37, standoff -84.65, extent 1188.19,-7.87 1211.81,7.87
3D body: height 47.24, standoff 30, extent 1088.19,-70.87 1111.81,7.87
3D body: height 39.37, standoff -84.65, extent 1088.19,-7.87 1111.81,7.87
3D body: height 47.24, standoff 30, extent 988.19,-70.87 1011.81,7.87
3D body: height 39.37, standoff -84.65, extent 988.19,-7.87 1011.81,7.87
3D body: height 47.24, standoff 30, extent 888.19,-70.87 911.81,7.87
3D body: height 39.37, standoff -84.65, extent 888.19,-7.87 911.81,7.87
3D body: height 47.24, standoff 30, extent 788.19,-70.87 811.81,7.87
3D body: height 39.37, standoff -84.65, extent 788.19,-7.87 811.81,7.87
3D body: height 47.24, standoff 30, extent 688.19,-70.87 711.81,7.87
3D body: height 39.37, standoff -84.65, extent 688.19,-7.87 711.81,7.87
3D body: height 47.24, standoff 30, extent 588.19,-70.87 611.81,7.87
3D body: height 39.37, standoff -84.65, extent 588.19,-7.87 611.81,7.87
3D body: height 47.24, standoff 30, extent 488.19,-70.87 511.81,7.87
3D body: height 39.37, standoff -84.65, extent 488.19,-7.87 511.81,7.87
3D body: height 47.24, standoff 30, extent 388.19,-70.87 411.81,7.87
3D body: height 39.37, standoff -84.65, extent 388.19,-7.87 411.81,7.87
3D body: height 47.24, standoff 30, extent 288.19,-70.87 311.81,7.87
3D body: height 39.37, standoff -84.65, extent 288.19,-7.87 311.81,7.87
3D body: height 47.24, standoff 30, extent 188.19,-70.87 211.81,7.87
3D body: height 39.37, standoff -84.65, extent 188.19,-7.87 211.81,7.87
3D body: height 47.24, standoff 30, extent 88.19,-70.87 111.81,7.87
3D body: height 39.37, standoff -84.65, extent 88.19,-7.87 111.81,7.87
3D body: height 39.37, standoff -84.65, extent -11.81,-7.87 11.81,7.87
3D body: height 47.24, standoff 30, extent -11.81,-70.87 11.81,7.87
3D body: height 200, standoff 0, extent -50,-400 1950,-50

## Male 1x1 [mil]
pads (1):
  oct 60x85 hole 35: 1(0,0)
Top Overlay:
  lines w8: -30,50 30,50 ; -30,50 -50,30 -50,-30 -30,-50 30,-50 50,-30 ; -30,50 30,50 ; 30,50 50,30 ; 50,-30 50,30 ; 50,-30 50,30
3D body: height 100, standoff 0, extent -50.02,-50.02 50.02,50.02
3D body: height 460, standoff -120, extent -10,-10 10,10

## Male 2X1 [mil]
pads (2):
  oct 60x85 hole 35: 1(0,0) 2(100,0)
Top Overlay:
  lines w8: -30,50 30,50 ; -30,50 -50,30 -50,-30 -30,-50 30,-50 50,-30 ; -30,50 30,50 ; 30,50 50,30 ; 50,-30 50,30 ; 50,-30 50,30 ; 50,-30 50,30 ; 50,-30 70,-50 130,-50 150,-30 ; 50,30 70,50 ; 70,50 130,50 ; 70,50 130,50 ; 130,50 150,30 ; 150,-30 150,30 ; 150,-30 150,30
3D body: height 460, standoff -120, extent -10,-10 10,10
3D body: height 100, standoff 0, extent -50.02,-50.02 50.02,50.02
3D body: height 460, standoff -120, extent 90,-10 110,10
3D body: height 100, standoff 0, extent 49.98,-50.02 150.02,50.02

## Male 2x2 [mil]
pads (4):
  oct 60x85 hole 35: 1(0,0) 2(100,0) 3(0,100) 4(100,100)
Top Overlay:
  lines w8: -30,50 -50,70 -50,130 -30,150 ; -30,50 30,50 ; -30,50 30,50 ; -30,50 -50,30 -50,-30 -30,-50 30,-50 50,-30 ; -30,50 30,50 ; -30,150 30,150 ; -30,150 30,150 ; 30,50 50,70 ; 30,50 50,30 ; 30,150 50,130 ; 50,-30 70,-50 130,-50 150,-30 ; 50,-30 50,30 ; 50,-30 50,30 ; 50,-30 50,30 ; 50,30 70,50 ; 50,70 70,50 ; 50,70 50,130 ; 50,70 50,130 ; 50,70 50,130 ; 50,130 70,150 ; 70,50 130,50 ; 70,50 130,50 ; 70,50 130,50 ; 70,150 130,150 ; 70,150 130,150 ; 130,50 150,70 ; 130,50 150,30 ; 130,150 150,130 ; 150,-30 150,30 ; 150,-30 150,30 ; 150,70 150,130 ; 150,70 150,130
3D body: height 100, standoff 0, extent 49.98,49.98 150.02,150.02
3D body: height 460, standoff -120, extent 90,90 110,110
3D body: height 100, standoff 0, extent -50.02,49.98 50.02,150.02
3D body: height 460, standoff -120, extent -10,90 10,110
3D body: height 100, standoff 0, extent 49.98,-50.02 150.02,50.02
3D body: height 460, standoff -120, extent 90,-10 110,10
3D body: height 100, standoff 0, extent -50.02,-50.02 50.02,50.02
3D body: height 460, standoff -120, extent -10,-10 10,10

## Male 3x1 [mil]
pads (3):
  oct 60x85 hole 35: 1(0,0) 2(100,0) 3(200,0)
Top Overlay:
  lines w8: -30,50 30,50 ; -30,50 -50,30 -50,-30 -30,-50 30,-50 50,-30 ; -30,50 30,50 ; 30,50 50,30 ; 50,-30 50,30 ; 50,-30 50,30 ; 50,-30 50,30 ; 50,-30 70,-50 130,-50 150,-30 ; 50,30 70,50 ; 70,50 130,50 ; 70,50 130,50 ; 130,50 150,30 ; 150,-30 150,30 ; 150,-30 150,30 ; 150,-30 150,30 ; 150,-30 170,-50 230,-50 250,-30 ; 150,30 170,50 ; 170,50 230,50 ; 170,50 230,50 ; 230,50 250,30 ; 250,-30 250,30 ; 250,-30 250,30
3D body: height 460, standoff -120, extent -10,-10 10,10
3D body: height 100, standoff 0, extent -50.02,-50.02 50.02,50.02
3D body: height 460, standoff -120, extent 90,-10 110,10
3D body: height 100, standoff 0, extent 49.98,-50.02 150.02,50.02
3D body: height 460, standoff -120, extent 190,-10 210,10
3D body: height 100, standoff 0, extent 149.98,-50.02 250.02,50.02